# EAGLE library part BARE-METAL (library Documentation)
Bare Metal
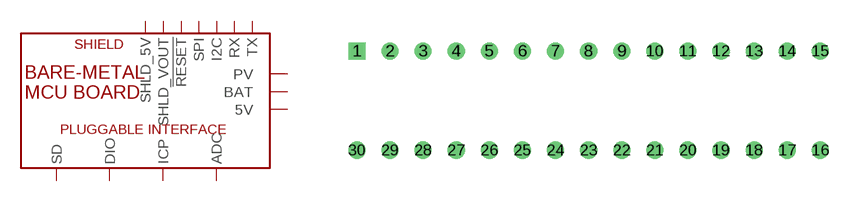
[diagram p1: symbol with the pads of NA-30; footprint NA-30]

Designator prefix BM

## BARE-METAL  [NA-30]
1  TX
2  RX
3  I2C
4  SPI
5  PV
6  BAT
7  ICP
8  ADC
9  DIO
10  SD
12  SHLD_VOUT
13  !RESET
14  5V
15  SHLD_5V

## Footprint NA-30 (pad centres in mm)
drill 0.8 square: 1 -17.78,3.81
drill 0.8: 2 -15.24,3.81; 3 -12.7,3.81; 4 -10.16,3.81; 5 -7.62,3.81; 6 -5.08,3.81; 7 -2.54,3.81; 8 0,3.81; 9 2.54,3.81; 10 5.08,3.81; 11 7.62,3.81; 12 10.16,3.81; 13 12.7,3.81; 14 15.24,3.81; 15 17.78,3.81; 16 17.78,-3.81; 17 15.24,-3.81; 18 12.7,-3.81; 19 10.16,-3.81; 20 7.62,-3.81; 21 5.08,-3.81; 22 2.54,-3.81; 23 0,-3.81; 24 -2.54,-3.81; 25 -5.08,-3.81; 26 -7.62,-3.81; 27 -10.16,-3.81; 28 -12.7,-3.81; 29 -15.24,-3.81; 30 -17.78,-3.81